# EAGLE library part RJ45 (library SM-RJ45)
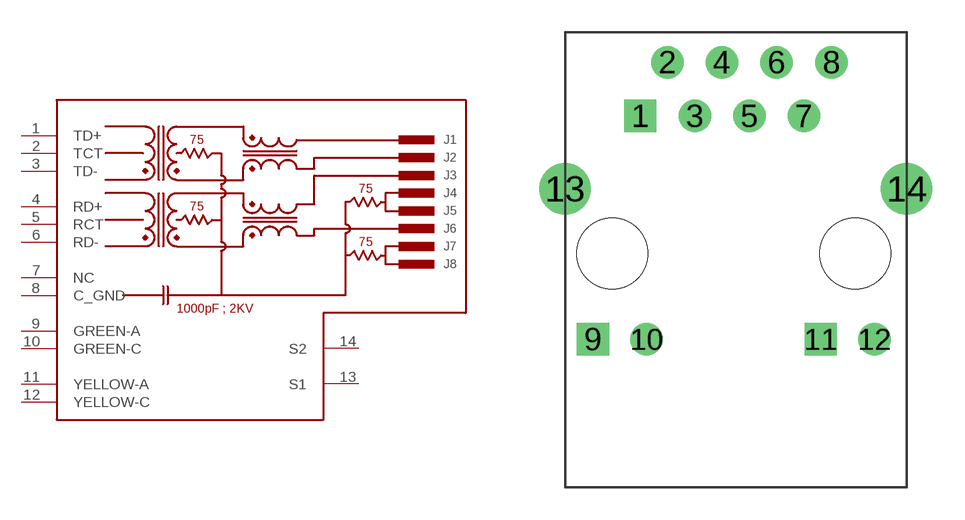
[diagram p0: symbol with the pads of RJ45; footprint RJ45]

Designator prefix -

## RJ45-TRAFO-L (MAN-PART-NO: LMJ1998824110DL1T36J; TME-PART-NO: RJ45-TRAFO-L)  [RJ45]
1  TD+
2  TCT
3  TD-
4  RD+
5  RCT
6  RD-
7  NC
8  C_GND
9  GREEN-A
10  GREEN-C
11  YELLOW-A
12  YELLOW-C
13  S1
14  S2

## Footprint RJ45 (pad centres in mm)
drill 1 square: 1 3.5,17.3; 9 1.3,6.9; 11 11.9,6.9
drill 1: 2 4.77,19.8; 3 6.04,17.3; 4 7.31,19.8; 5 8.58,17.3; 6 9.85,19.8; 7 11.12,17.3; 8 12.4,19.8; 10 3.8,6.9; 12 14.4,6.9
drill 1.6: 13 0,13.9; 14 15.9,13.9
hole 3.3 at 2.2,10.9
hole 3.3 at 13.5,10.9